# Altium integrated library ST Logic Register.IntLib: 80 symbols (part 1 of 2)
Pins are listed as number, name and electrical type; pins without a type are passive.

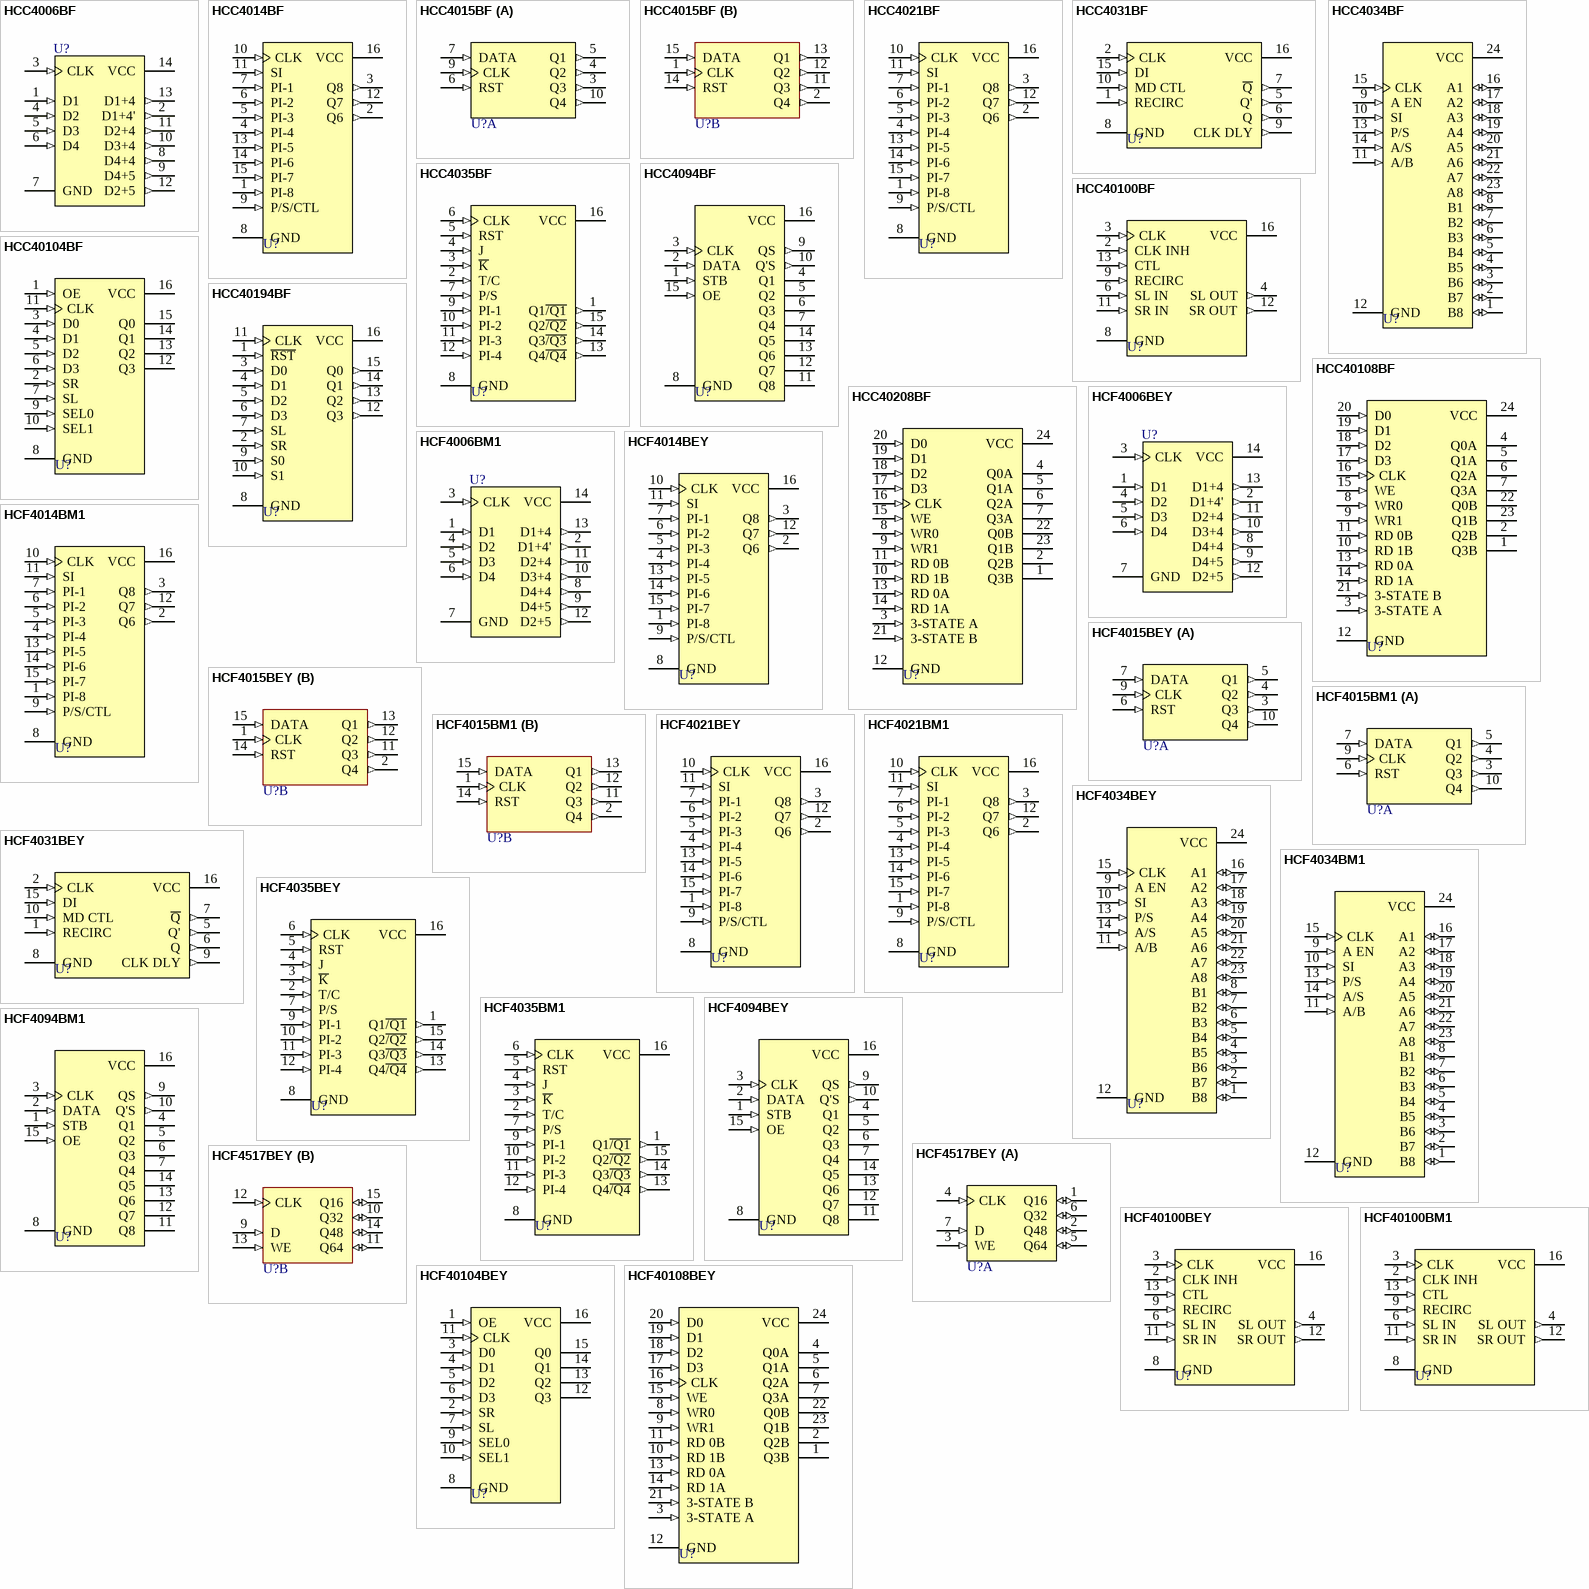
[diagram p0: symbols HCC4006BF to HCF40108BEY]

## HCC4006BF
designator U?
18-Stage Static Shift Register; Published: 8-Jun-2000; LatestRevisionDate: 6-Jun-2005; LatestRevisionNote: Stylized 3D Model Added.; DatasheetDocument: Jun-1989; PackageReference: CDIP14; Publisher: Altium Limited; ComponentLink1Description: Manufacturer Link; ComponentLink1URL: http://www.st.com/
footprint CDIP14 (DIP; 14 Leads; Row Spacing 7.62 mm; Pitch 2.54 mm)
3D model CDIP14 (DIP; 14 Leads; Row Spacing 7.62 mm; Pitch 2.54 mm)
simulation model HCC4006 (SIMCODE)
pins: 1 D1 (in), 2 D1+4' (out), 3 CLK (in), 4 D2 (in), 5 D3 (in), 6 D4 (in), 7 GND (power), 8 D4+4 (out), 9 D4+5 (out), 10 D3+4 (out), 11 D2+4 (out), 12 D2+5 (out), 13 D1+4 (out), 14 VCC (power)

## HCC4014BF
designator U?
8-Stage Static Shift Register; Published: 8-Jun-2000; LatestRevisionDate: 6-Jun-2005; LatestRevisionNote: Stylized 3D Model Added.; DatasheetDocument: Nov-1996; PackageDocument: Apr-1996; PackageReference: DIP16; Publisher: Altium Limited; ComponentLink1Description: Manufacturer Link; ComponentLink1URL: http://www.st.com/
footprint DIP16 (DIP; 16 Leads; Row Spacing 7.62 mm; Pitch 2.54 mm)
3D model DIP16 (DIP; 16 Leads; Row Spacing 7.62 mm; Pitch 2.54 mm)
simulation model HCC4014 (SIMCODE)
pins: 1 PI-8 (in), 2 Q6 (out), 3 Q8 (out), 4 PI-4 (in), 5 PI-3 (in), 6 PI-2 (in), 7 PI-1 (in), 8 GND (power), 9 P/S/CTL (in), 10 CLK (in), 11 SI (in), 12 Q7 (out), 13 PI-5 (in), 14 PI-6 (in), 15 PI-7 (in), 16 VCC (power)

## HCC4015BF
designator U?
Dual 4-Stage Static Shift Register with Serial Input/Parallel Output; Published: 8-Jun-2000; LatestRevisionDate: 6-Jun-2005; LatestRevisionNote: Stylized 3D Model Added.; DatasheetDocument: Jun-1989; PackageDocument: Apr-1996; PackageReference: DIP16; Publisher: Altium Limited; ComponentLink1Description: Manufacturer Link; ComponentLink1URL: http://www.st.com/
footprint DIP16 (DIP; 16 Leads; Row Spacing 7.62 mm; Pitch 2.54 mm)
3D model DIP16 (DIP; 16 Leads; Row Spacing 7.62 mm; Pitch 2.54 mm)
simulation model HCC4015 (SIMCODE)
pins on every part: 8 GND (power) hidden to GND, 16 VCC (power) hidden to VCC
part A pins: 3 Q3 (out), 4 Q2 (out), 5 Q1 (out), 6 RST (in), 7 DATA (in), 9 CLK (in), 10 Q4 (out)
part B pins: 1 CLK (in), 2 Q4 (out), 11 Q3 (out), 12 Q2 (out), 13 Q1 (out), 14 RST (in), 15 DATA (in)

## HCC4021BF
designator U?
8-Stage Static Shift Register; Published: 8-Jun-2000; LatestRevisionDate: 6-Jun-2005; LatestRevisionNote: Stylized 3D Model Added.; DatasheetDocument: Nov-1996; PackageDocument: Apr-1996; PackageReference: DIP16; Publisher: Altium Limited; ComponentLink1Description: Manufacturer Link; ComponentLink1URL: http://www.st.com/
footprint DIP16 (DIP; 16 Leads; Row Spacing 7.62 mm; Pitch 2.54 mm)
3D model DIP16 (DIP; 16 Leads; Row Spacing 7.62 mm; Pitch 2.54 mm)
simulation model HCC4021 (SIMCODE)
pins: 1 PI-8 (in), 2 Q6 (out), 3 Q8 (out), 4 PI-4 (in), 5 PI-3 (in), 6 PI-2 (in), 7 PI-1 (in), 8 GND (power), 9 P/S/CTL (in), 10 CLK (in), 11 SI (in), 12 Q7 (out), 13 PI-5 (in), 14 PI-6 (in), 15 PI-7 (in), 16 VCC (power)

## HCC4031BF
designator U?
64-Stage Static Shift Register; Note: Pins 3, 4, 11, 12, 13 and 14 are not connected and not drawn.; Published: 8-Jun-2000; LatestRevisionDate: 6-Jun-2005; LatestRevisionNote: Stylized 3D Model Added.; DatasheetDocument: Jun-1989; PackageDocument: Apr-1996; PackageReference: DIP16; Publisher: Altium Limited; ComponentLink1Description: Manufacturer Link; ComponentLink1URL: http://www.st.com/
footprint DIP16 (DIP; 16 Leads; Row Spacing 7.62 mm; Pitch 2.54 mm)
3D model DIP16 (DIP; 16 Leads; Row Spacing 7.62 mm; Pitch 2.54 mm)
simulation model HCC4031 (SIMCODE)
pins: 1 RECIRC (in), 2 CLK (in), 5 Q' (out), 6 Q (out), 7 ~{Q} (out), 8 GND (power), 9 CLK DLY (out), 10 MD CTL (in), 15 DI (in), 16 VCC (power)

## HCC4034BF
designator U?
8-Stage Static Bidirectional Parallel/Serial Input/Output Bus Register; Published: 8-Jun-2000; LatestRevisionDate: 6-Jun-2005; LatestRevisionNote: Stylized 3D Model Added.; DatasheetDocument: Jun-1989; PackageDocument: Sep-1988; PackageReference: CDIP24; Publisher: Altium Limited; ComponentLink1Description: Manufacturer Link; ComponentLink1URL: http://www.st.com/
footprint CDIP24 (DIP; 24 Leads; Row Spacing 15.24 mm; Pitch 2.54 mm)
3D model CDIP24 (DIP; 24 Leads; Row Spacing 15.24 mm; Pitch 2.54 mm)
pins: 1 B8 (io), 2 B7 (io), 3 B6 (io), 4 B5 (io), 5 B4 (io), 6 B3 (io), 7 B2 (io), 8 B1 (io), 9 A EN (in), 10 SI (in), 11 A/B (in), 12 GND (power), 13 P/S (in), 14 A/S (in), 15 CLK (in), 16 A1 (io), 17 A2 (io), 18 A3 (io), 19 A4 (io), 20 A5 (io), 21 A6 (io), 22 A7 (io), 23 A8 (io), 24 VCC (power)

## HCC4035BF
designator U?
4-Stage Parallel In/Parallel Out Shift Register; Published: 8-Jun-2000; LatestRevisionDate: 6-Jun-2005; LatestRevisionNote: Stylized 3D Model Added.; DatasheetDocument: Jul-1989; PackageDocument: Apr-1996; PackageReference: DIP16; Publisher: Altium Limited; ComponentLink1Description: Manufacturer Link; ComponentLink1URL: http://www.st.com/
footprint DIP16 (DIP; 16 Leads; Row Spacing 7.62 mm; Pitch 2.54 mm)
3D model DIP16 (DIP; 16 Leads; Row Spacing 7.62 mm; Pitch 2.54 mm)
simulation model HCC4035 (SIMCODE)
pins: 1 Q1~{/Q1} (out), 2 T/C (in), 3 ~{K} (in), 4 J (in), 5 RST (in), 6 CLK (in), 7 P/S (in), 8 GND (power), 9 PI-1 (in), 10 PI-2 (in), 11 PI-3 (in), 12 PI-4 (in), 13 Q4~{/Q4} (out), 14 Q3~{/Q3} (out), 15 Q2~{/Q2} (out), 16 VCC (power)

## HCC4094BF
designator U?
8-Stage Shift-AND-Store Bus Register; Published: 8-Jun-2000; LatestRevisionDate: 6-Jun-2005; LatestRevisionNote: Stylized 3D Model Added.; DatasheetDocument: Jun-1989; PackageDocument: Apr-1996; PackageReference: DIP16; Publisher: Altium Limited; ComponentLink1Description: Manufacturer Link; ComponentLink1URL: http://www.st.com/
footprint DIP16 (DIP; 16 Leads; Row Spacing 7.62 mm; Pitch 2.54 mm)
3D model DIP16 (DIP; 16 Leads; Row Spacing 7.62 mm; Pitch 2.54 mm)
simulation model HCC4094 (SIMCODE)
pins: 1 STB (in), 2 DATA (in), 3 CLK (in), 4 Q1 (hiz), 5 Q2 (hiz), 6 Q3 (hiz), 7 Q4 (hiz), 8 GND (power), 9 QS (out), 10 Q'S (out), 11 Q8 (hiz), 12 Q7 (hiz), 13 Q6 (hiz), 14 Q5 (hiz), 15 OE (in), 16 VCC (power)

## HCC40100BF
designator U?
32-Stage Static Left/Right Shift Register; Note: Pins 1, 5, 7, 10, 14 and 15 are not connected and not drawn.; Published: 8-Jun-2000; LatestRevisionDate: 6-Jun-2005; LatestRevisionNote: Stylized 3D Model Added.; DatasheetDocument: Jun-1989; PackageDocument: Apr-1996; PackageReference: DIP16; Publisher: Altium Limited; ComponentLink1Description: Manufacturer Link; ComponentLink1URL: http://www.st.com/
footprint DIP16 (DIP; 16 Leads; Row Spacing 7.62 mm; Pitch 2.54 mm)
3D model DIP16 (DIP; 16 Leads; Row Spacing 7.62 mm; Pitch 2.54 mm)
pins: 2 CLK INH (in), 3 CLK (in), 4 SL OUT (out), 6 SL IN (in), 8 GND (power), 9 RECIRC (in), 11 SR IN (in), 12 SR OUT (out), 13 CTL (in), 16 VCC (power)

## HCC40104BF
designator U?
4-Bit Bidirectional Universal Shift Register; Published: 8-Jun-2000; LatestRevisionDate: 6-Jun-2005; LatestRevisionNote: Stylized 3D Model Added.; DatasheetDocument: Jun-1989; PackageDocument: Apr-1996; PackageReference: DIP16; Publisher: Altium Limited; ComponentLink1Description: Manufacturer Link; ComponentLink1URL: http://www.st.com/
footprint DIP16 (DIP; 16 Leads; Row Spacing 7.62 mm; Pitch 2.54 mm)
3D model DIP16 (DIP; 16 Leads; Row Spacing 7.62 mm; Pitch 2.54 mm)
pins: 1 OE (in), 2 SR (in), 3 D0 (in), 4 D1 (in), 5 D2 (in), 6 D3 (in), 7 SL (in), 8 GND (power), 9 SEL0 (in), 10 SEL1 (in), 11 CLK (in), 12 Q3 (hiz), 13 Q2 (hiz), 14 Q1 (hiz), 15 Q0 (hiz), 16 VCC (power)

## HCC40108BF
designator U?
4 x 4 Multiport Register; Published: 8-Jun-2000; LatestRevisionDate: 6-Jun-2005; LatestRevisionNote: Stylized 3D Model Added.; DatasheetDocument: Sep-1988; PackageDocument: Sep-1988; PackageReference: CDIP24; Publisher: Altium Limited; ComponentLink1Description: Manufacturer Link; ComponentLink1URL: http://www.st.com/
footprint CDIP24 (DIP; 24 Leads; Row Spacing 15.24 mm; Pitch 2.54 mm)
3D model CDIP24 (DIP; 24 Leads; Row Spacing 15.24 mm; Pitch 2.54 mm)
pins: 1 Q3B (hiz), 2 Q2B (hiz), 3 3-STATE A (in), 4 Q0A (hiz), 5 Q1A (hiz), 6 Q2A (hiz), 7 Q3A (hiz), 8 WR0 (in), 9 WR1 (in), 10 RD 1B (in), 11 RD 0B (in), 12 GND (power), 13 RD 0A (in), 14 RD 1A (in), 15 WE (in), 16 CLK (in), 17 D3 (in), 18 D2 (in), 19 D1 (in), 20 D0 (in), 21 3-STATE B (in), 22 Q0B (hiz), 23 Q1B (hiz), 24 VCC (power)

## HCC40194BF
designator U?
4-Bit Bidirectional Universal Shift Register; Published: 8-Jun-2000; LatestRevisionDate: 6-Jun-2005; LatestRevisionNote: Stylized 3D Model Added.; DatasheetDocument: Jun-1989; PackageDocument: Apr-1996; PackageReference: DIP16; Publisher: Altium Limited; ComponentLink1Description: Manufacturer Link; ComponentLink1URL: http://www.st.com/
footprint DIP16 (DIP; 16 Leads; Row Spacing 7.62 mm; Pitch 2.54 mm)
3D model DIP16 (DIP; 16 Leads; Row Spacing 7.62 mm; Pitch 2.54 mm)
pins: 1 ~{RST} (in), 2 SR (in), 3 D0 (in), 4 D1 (in), 5 D2 (in), 6 D3 (in), 7 SL (in), 8 GND (power), 9 S0 (in), 10 S1 (in), 11 CLK (in), 12 Q3 (out), 13 Q2 (out), 14 Q1 (out), 15 Q0 (out), 16 VCC (power)

## HCC40208BF
designator U?
4 x 4 Multiport Register; Published: 8-Jun-2000; LatestRevisionDate: 6-Jun-2005; LatestRevisionNote: Stylized 3D Model Added.; DatasheetDocument: Jun-1989; PackageDocument: Sep-1988; PackageReference: CDIP24; Publisher: Altium Limited; ComponentLink1Description: Manufacturer Link; ComponentLink1URL: http://www.st.com/
footprint CDIP24 (DIP; 24 Leads; Row Spacing 15.24 mm; Pitch 2.54 mm)
3D model CDIP24 (DIP; 24 Leads; Row Spacing 15.24 mm; Pitch 2.54 mm)
pins: 1 Q3B (hiz), 2 Q2B (hiz), 3 3-STATE A (in), 4 Q0A (hiz), 5 Q1A (hiz), 6 Q2A (hiz), 7 Q3A (hiz), 8 WR0 (in), 9 WR1 (in), 10 RD 1B (in), 11 RD 0B (in), 12 GND (power), 13 RD 0A (in), 14 RD 1A (in), 15 WE (in), 16 CLK (in), 17 D3 (in), 18 D2 (in), 19 D1 (in), 20 D0 (in), 21 3-STATE B (in), 22 Q0B (hiz), 23 Q1B (hiz), 24 VCC (power)

## HCF4006BEY
designator U?
18-Stage Static Shift Register; Published: 8-Jun-2000; LatestRevisionDate: 6-Jun-2005; LatestRevisionNote: Stylized 3D Model Added.; DatasheetDocument: Jun-1989; PackageDocument: Jan-1997; PackageReference: DIP14; Publisher: Altium Limited; ComponentLink1Description: Manufacturer Link; ComponentLink1URL: http://www.st.com/; ComponentLink2Description: Datasheet; ComponentLink2URL: http://www.st.com/stonline/products/literature/ds/2008/hcf4006.pdf
footprint DIP14 (DIP; 14 Leads; Row Spacing 7.62 mm; Pitch 2.54 mm)
3D model CDIP14 (DIP; 14 Leads; Row Spacing 7.62 mm; Pitch 2.54 mm)
simulation model HCF4006 (SIMCODE)
pins: 1 D1 (in), 2 D1+4' (out), 3 CLK (in), 4 D2 (in), 5 D3 (in), 6 D4 (in), 7 GND (power), 8 D4+4 (out), 9 D4+5 (out), 10 D3+4 (out), 11 D2+4 (out), 12 D2+5 (out), 13 D1+4 (out), 14 VCC (power)

## HCF4006BM1
designator U?
18-Stage Static Shift Register; Published: 8-Jun-2000; LatestRevisionDate: 6-Jun-2005; LatestRevisionNote: Stylized 3D Model Added.; DatasheetDocument: Jun-1989; PackageDocument: Sep-1998; PackageReference: SO14; Publisher: Altium Limited; ComponentLink1Description: Manufacturer Link; ComponentLink1URL: http://www.st.com/; ComponentLink2Description: Datasheet; ComponentLink2URL: http://www.st.com/stonline/products/literature/ds/2008/hcf4006.pdf
footprint SO14 (Small Outline; 14 Leads; Body Width 3.9 mm; Pitch 1.27 mm)
3D model SO14 (Small Outline; 14 Leads; Body Width 3.9 mm; Pitch 1.27 mm)
simulation model HCF4006 (SIMCODE)
pins: 1 D1 (in), 2 D1+4' (out), 3 CLK (in), 4 D2 (in), 5 D3 (in), 6 D4 (in), 7 GND (power), 8 D4+4 (out), 9 D4+5 (out), 10 D3+4 (out), 11 D2+4 (out), 12 D2+5 (out), 13 D1+4 (out), 14 VCC (power)

## HCF4014BEY
designator U?
8-Stage Static Shift Register; Published: 8-Jun-2000; LatestRevisionDate: 6-Jun-2005; LatestRevisionNote: Stylized 3D Model Added.; DatasheetDocument: Nov-1996; PackageDocument: Apr-1996; PackageReference: DIP16; Publisher: Altium Limited; ComponentLink1Description: Manufacturer Link; ComponentLink1URL: http://www.st.com/; ComponentLink2Description: Datasheet; ComponentLink2URL: http://www.st.com/stonline/products/literature/ds/4898/hcf4014.pdf
footprint DIP16 (DIP; 16 Leads; Row Spacing 7.62 mm; Pitch 2.54 mm)
3D model DIP16 (DIP; 16 Leads; Row Spacing 7.62 mm; Pitch 2.54 mm)
simulation model HCF4014 (SIMCODE)
pins: 1 PI-8 (in), 2 Q6 (out), 3 Q8 (out), 4 PI-4 (in), 5 PI-3 (in), 6 PI-2 (in), 7 PI-1 (in), 8 GND (power), 9 P/S/CTL (in), 10 CLK (in), 11 SI (in), 12 Q7 (out), 13 PI-5 (in), 14 PI-6 (in), 15 PI-7 (in), 16 VCC (power)

## HCF4014BM1
designator U?
8-Stage Static Shift Register; Published: 8-Jun-2000; LatestRevisionDate: 6-Jun-2005; LatestRevisionNote: Stylized 3D Model Added.; DatasheetDocument: Nov-1996; PackageDocument: May-1998; PackageReference: SO16; Publisher: Altium Limited; ComponentLink1Description: Manufacturer Link; ComponentLink1URL: http://www.st.com/; ComponentLink2Description: Datasheet; ComponentLink2URL: http://www.st.com/stonline/products/literature/ds/4898/hcf4014.pdf
footprint SO16 (Small Outline; 16 Leads; Body Width 3.9 mm; Pitch 1.27 mm)
3D model SO16 (Small Outline; 16 Leads; Body Width 3.9 mm; Pitch 1.27 mm)
simulation model HCF4014 (SIMCODE)
pins: 1 PI-8 (in), 2 Q6 (out), 3 Q8 (out), 4 PI-4 (in), 5 PI-3 (in), 6 PI-2 (in), 7 PI-1 (in), 8 GND (power), 9 P/S/CTL (in), 10 CLK (in), 11 SI (in), 12 Q7 (out), 13 PI-5 (in), 14 PI-6 (in), 15 PI-7 (in), 16 VCC (power)

## HCF4015BEY
designator U?
Dual 4-Stage Static Shift Register with Serial Input/Parallel Output; Published: 8-Jun-2000; LatestRevisionDate: 6-Jun-2005; LatestRevisionNote: Stylized 3D Model Added.; DatasheetDocument: Jun-1989; PackageDocument: Apr-1996; PackageReference: DIP16; Publisher: Altium Limited; ComponentLink1Description: Manufacturer Link; ComponentLink1URL: http://www.st.com/; ComponentLink2Description: Datasheet; ComponentLink2URL: http://www.st.com/stonline/products/literature/ds/2025/hcf4015.pdf
footprint DIP16 (DIP; 16 Leads; Row Spacing 7.62 mm; Pitch 2.54 mm)
3D model DIP16 (DIP; 16 Leads; Row Spacing 7.62 mm; Pitch 2.54 mm)
simulation model HCF4015 (SIMCODE)
pins on every part: 8 GND (power) hidden to GND, 16 VCC (power) hidden to VCC
part A pins: 3 Q3 (out), 4 Q2 (out), 5 Q1 (out), 6 RST (in), 7 DATA (in), 9 CLK (in), 10 Q4 (out)
part B pins: 1 CLK (in), 2 Q4 (out), 11 Q3 (out), 12 Q2 (out), 13 Q1 (out), 14 RST (in), 15 DATA (in)

## HCF4015BM1
designator U?
Dual 4-Stage Static Shift Register with Serial Input/Parallel Output; Published: 8-Jun-2000; LatestRevisionDate: 6-Jun-2005; LatestRevisionNote: Stylized 3D Model Added.; DatasheetDocument: Jun-1989; PackageDocument: May-1998; PackageReference: SO16; Publisher: Altium Limited; ComponentLink1Description: Manufacturer Link; ComponentLink1URL: http://www.st.com/; ComponentLink2Description: Datasheet; ComponentLink2URL: http://www.st.com/stonline/products/literature/ds/2025/hcf4015.pdf
footprint SO16 (Small Outline; 16 Leads; Body Width 3.9 mm; Pitch 1.27 mm)
3D model SO16 (Small Outline; 16 Leads; Body Width 3.9 mm; Pitch 1.27 mm)
simulation model HCF4015 (SIMCODE)
pins on every part: 8 GND (power) hidden to GND, 16 VCC (power) hidden to VCC
part A pins: 3 Q3 (out), 4 Q2 (out), 5 Q1 (out), 6 RST (in), 7 DATA (in), 9 CLK (in), 10 Q4 (out)
part B pins: 1 CLK (in), 2 Q4 (out), 11 Q3 (out), 12 Q2 (out), 13 Q1 (out), 14 RST (in), 15 DATA (in)

## HCF4021BEY
designator U?
8-Stage Static Shift Register; Published: 8-Jun-2000; LatestRevisionDate: 6-Jun-2005; LatestRevisionNote: Stylized 3D Model Added.; DatasheetDocument: Nov-1996; PackageDocument: Apr-1996; PackageReference: DIP16; Publisher: Altium Limited; ComponentLink1Description: Manufacturer Link; ComponentLink1URL: http://www.st.com/; ComponentLink2Description: Datasheet; ComponentLink2URL: http://www.st.com/stonline/products/literature/ds/8216/hcf4021.pdf
footprint DIP16 (DIP; 16 Leads; Row Spacing 7.62 mm; Pitch 2.54 mm)
3D model DIP16 (DIP; 16 Leads; Row Spacing 7.62 mm; Pitch 2.54 mm)
simulation model HCF4021 (SIMCODE)
pins: 1 PI-8 (in), 2 Q6 (out), 3 Q8 (out), 4 PI-4 (in), 5 PI-3 (in), 6 PI-2 (in), 7 PI-1 (in), 8 GND (power), 9 P/S/CTL (in), 10 CLK (in), 11 SI (in), 12 Q7 (out), 13 PI-5 (in), 14 PI-6 (in), 15 PI-7 (in), 16 VCC (power)

## HCF4021BM1
designator U?
8-Stage Static Shift Register; Published: 8-Jun-2000; LatestRevisionDate: 6-Jun-2005; LatestRevisionNote: Stylized 3D Model Added.; DatasheetDocument: Nov-1996; PackageDocument: May-1998; PackageReference: SO16; Publisher: Altium Limited; ComponentLink1Description: Manufacturer Link; ComponentLink1URL: http://www.st.com/; ComponentLink2Description: Datasheet; ComponentLink2URL: http://www.st.com/stonline/products/literature/ds/8216/hcf4021.pdf
footprint SO16 (Small Outline; 16 Leads; Body Width 3.9 mm; Pitch 1.27 mm)
3D model SO16 (Small Outline; 16 Leads; Body Width 3.9 mm; Pitch 1.27 mm)
simulation model HCF4021 (SIMCODE)
pins: 1 PI-8 (in), 2 Q6 (out), 3 Q8 (out), 4 PI-4 (in), 5 PI-3 (in), 6 PI-2 (in), 7 PI-1 (in), 8 GND (power), 9 P/S/CTL (in), 10 CLK (in), 11 SI (in), 12 Q7 (out), 13 PI-5 (in), 14 PI-6 (in), 15 PI-7 (in), 16 VCC (power)

## HCF4031BEY
designator U?
64-Stage Static Shift Register; Note: Pins 3, 4, 11, 12, 13 and 14 are not connected and not drawn.; Published: 8-Jun-2000; LatestRevisionDate: 6-Jun-2005; LatestRevisionNote: Stylized 3D Model Added.; DatasheetDocument: Jun-1989; PackageDocument: Apr-1996; PackageReference: DIP16; Publisher: Altium Limited; ComponentLink1Description: Manufacturer Link; ComponentLink1URL: http://www.st.com/
footprint DIP16 (DIP; 16 Leads; Row Spacing 7.62 mm; Pitch 2.54 mm)
3D model DIP16 (DIP; 16 Leads; Row Spacing 7.62 mm; Pitch 2.54 mm)
simulation model HCF4031 (SIMCODE)
pins: 1 RECIRC (in), 2 CLK (in), 5 Q' (out), 6 Q (out), 7 ~{Q} (out), 8 GND (power), 9 CLK DLY (out), 10 MD CTL (in), 15 DI (in), 16 VCC (power)

## HCF4034BEY
designator U?
8-Stage Static Bidirectional Parallel/Serial Input/Output Bus Register; Published: 8-Jun-2000; LatestRevisionDate: 6-Jun-2005; LatestRevisionNote: Stylized 3D Model Added.; DatasheetDocument: Jun-1989; PackageDocument: Jan-1995; PackageReference: PDIP24; Publisher: Altium Limited; ComponentLink1Description: Manufacturer Link; ComponentLink1URL: http://www.st.com/
footprint PDIP24 (DIP; 24 Leads; Row Spacing 15.24 mm; Pitch 2.54 mm)
3D model CDIP24 (DIP; 24 Leads; Row Spacing 15.24 mm; Pitch 2.54 mm)
pins: 1 B8 (io), 2 B7 (io), 3 B6 (io), 4 B5 (io), 5 B4 (io), 6 B3 (io), 7 B2 (io), 8 B1 (io), 9 A EN (in), 10 SI (in), 11 A/B (in), 12 GND (power), 13 P/S (in), 14 A/S (in), 15 CLK (in), 16 A1 (io), 17 A2 (io), 18 A3 (io), 19 A4 (io), 20 A5 (io), 21 A6 (io), 22 A7 (io), 23 A8 (io), 24 VCC (power)

## HCF4034BM1
designator U?
8-Stage Static Bidirectional Parallel/Serial Input/Output Bus Register; Published: 8-Jun-2000; LatestRevisionDate: 6-Jun-2005; LatestRevisionNote: Stylized 3D Model Added.; DatasheetDocument: Jun-1989; PackageDocument: Oct-2001; PackageReference: SO24; Publisher: Altium Limited; Code_IPC: SO24W; ComponentLink1Description: Manufacturer Link; ComponentLink1URL: http://www.st.com/
footprint SO24 (Small Outline, Plastic; 24 Leads; Body Width 7.5 mm; Pitch 1.27 mm)
3D model SO24 (Small Outline, Plastic; 24 Leads; Body Width 7.5 mm; Pitch 1.27 mm)
pins: 1 B8 (io), 2 B7 (io), 3 B6 (io), 4 B5 (io), 5 B4 (io), 6 B3 (io), 7 B2 (io), 8 B1 (io), 9 A EN (in), 10 SI (in), 11 A/B (in), 12 GND (power), 13 P/S (in), 14 A/S (in), 15 CLK (in), 16 A1 (io), 17 A2 (io), 18 A3 (io), 19 A4 (io), 20 A5 (io), 21 A6 (io), 22 A7 (io), 23 A8 (io), 24 VCC (power)

## HCF4035BEY
designator U?
4-Stage Parallel In/Parallel Out Shift Register; Published: 8-Jun-2000; LatestRevisionDate: 6-Jun-2005; LatestRevisionNote: Stylized 3D Model Added.; DatasheetDocument: Jul-1989; PackageDocument: Apr-1996; PackageReference: DIP16; Publisher: Altium Limited; ComponentLink1Description: Manufacturer Link; ComponentLink1URL: http://www.st.com/; ComponentLink2Description: Datasheet; ComponentLink2URL: http://www.st.com/stonline/products/literature/ds/2045/hcf4035.pdf
footprint DIP16 (DIP; 16 Leads; Row Spacing 7.62 mm; Pitch 2.54 mm)
3D model DIP16 (DIP; 16 Leads; Row Spacing 7.62 mm; Pitch 2.54 mm)
simulation model HCF4035 (SIMCODE)
pins: 1 Q1~{/Q1} (out), 2 T/C (in), 3 ~{K} (in), 4 J (in), 5 RST (in), 6 CLK (in), 7 P/S (in), 8 GND (power), 9 PI-1 (in), 10 PI-2 (in), 11 PI-3 (in), 12 PI-4 (in), 13 Q4~{/Q4} (out), 14 Q3~{/Q3} (out), 15 Q2~{/Q2} (out), 16 VCC (power)

## HCF4035BM1
designator U?
4-Stage Parallel In/Parallel Out Shift Register; Published: 8-Jun-2000; LatestRevisionDate: 6-Jun-2005; LatestRevisionNote: Stylized 3D Model Added.; DatasheetDocument: Jul-1989; PackageDocument: May-1998; PackageReference: SO16; Publisher: Altium Limited; ComponentLink1Description: Manufacturer Link; ComponentLink1URL: http://www.st.com/; ComponentLink2Description: Datasheet; ComponentLink2URL: http://www.st.com/stonline/products/literature/ds/2045/hcf4035.pdf
footprint SO16 (Small Outline; 16 Leads; Body Width 3.9 mm; Pitch 1.27 mm)
3D model SO16 (Small Outline; 16 Leads; Body Width 3.9 mm; Pitch 1.27 mm)
simulation model HCF4035 (SIMCODE)
pins: 1 Q1~{/Q1} (out), 2 T/C (in), 3 ~{K} (in), 4 J (in), 5 RST (in), 6 CLK (in), 7 P/S (in), 8 GND (power), 9 PI-1 (in), 10 PI-2 (in), 11 PI-3 (in), 12 PI-4 (in), 13 Q4~{/Q4} (out), 14 Q3~{/Q3} (out), 15 Q2~{/Q2} (out), 16 VCC (power)

## HCF4094BEY
designator U?
8-Stage Shift-AND-Store Bus Register; Published: 8-Jun-2000; LatestRevisionDate: 6-Jun-2005; LatestRevisionNote: Stylized 3D Model Added.; DatasheetDocument: Jun-1989; PackageDocument: Apr-1996; PackageReference: DIP16; Publisher: Altium Limited; ComponentLink1Description: Manufacturer Link; ComponentLink1URL: http://www.st.com/; ComponentLink2Description: Datasheet; ComponentLink2URL: http://www.st.com/stonline/products/literature/ds/2069/hcf4094.pdf
footprint DIP16 (DIP; 16 Leads; Row Spacing 7.62 mm; Pitch 2.54 mm)
3D model DIP16 (DIP; 16 Leads; Row Spacing 7.62 mm; Pitch 2.54 mm)
simulation model HCF4094 (SIMCODE)
pins: 1 STB (in), 2 DATA (in), 3 CLK (in), 4 Q1 (hiz), 5 Q2 (hiz), 6 Q3 (hiz), 7 Q4 (hiz), 8 GND (power), 9 QS (out), 10 Q'S (out), 11 Q8 (hiz), 12 Q7 (hiz), 13 Q6 (hiz), 14 Q5 (hiz), 15 OE (in), 16 VCC (power)

## HCF4094BM1
designator U?
8-Stage Shift-AND-Store Bus Register; Published: 8-Jun-2000; LatestRevisionDate: 6-Jun-2005; LatestRevisionNote: Stylized 3D Model Added.; DatasheetDocument: Jun-1989; PackageDocument: May-1998; PackageReference: SO16; Publisher: Altium Limited; ComponentLink1Description: Manufacturer Link; ComponentLink1URL: http://www.st.com/; ComponentLink2Description: Datasheet; ComponentLink2URL: http://www.st.com/stonline/products/literature/ds/2069/hcf4094.pdf
footprint SO16 (Small Outline; 16 Leads; Body Width 3.9 mm; Pitch 1.27 mm)
3D model SO16 (Small Outline; 16 Leads; Body Width 3.9 mm; Pitch 1.27 mm)
simulation model HCF4094 (SIMCODE)
pins: 1 STB (in), 2 DATA (in), 3 CLK (in), 4 Q1 (hiz), 5 Q2 (hiz), 6 Q3 (hiz), 7 Q4 (hiz), 8 GND (power), 9 QS (out), 10 Q'S (out), 11 Q8 (hiz), 12 Q7 (hiz), 13 Q6 (hiz), 14 Q5 (hiz), 15 OE (in), 16 VCC (power)

## HCF4517BEY
designator U?
Dual 64-Stage Static Shift Register; Published: 8-Jun-2000; LatestRevisionDate: 6-Jun-2005; LatestRevisionNote: Stylized 3D Model Added.; DatasheetDocument: Sep-1988; PackageDocument: Apr-1996; PackageReference: DIP16; Publisher: Altium Limited; ComponentLink1Description: Manufacturer Link; ComponentLink1URL: http://www.st.com/; ComponentLink2Description: Datasheet; ComponentLink2URL: http://www.st.com/stonline/products/literature/ds/2081/hcf4517.pdf
footprint DIP16 (DIP; 16 Leads; Row Spacing 7.62 mm; Pitch 2.54 mm)
3D model DIP16 (DIP; 16 Leads; Row Spacing 7.62 mm; Pitch 2.54 mm)
simulation model HCF4517 (SIMCODE)
pins on every part: 8 GND (power) hidden to GND, 16 VDD (power) hidden to VDD
part A pins: 1 Q16 (io), 2 Q48 (io), 3 WE (in), 4 CLK (in), 5 Q64 (io), 6 Q32 (io), 7 D (in)
part B pins: 9 D (in), 10 Q32 (io), 11 Q64 (io), 12 CLK (in), 13 WE (in), 14 Q48 (io), 15 Q16 (io)

## HCF40100BEY
designator U?
32-Stage Static Left/Right Shift Register; Note: Pins 1, 5, 7, 10, 14 and 15 are not connected and not drawn.; Published: 8-Jun-2000; LatestRevisionDate: 6-Jun-2005; LatestRevisionNote: Stylized 3D Model Added.; DatasheetDocument: Jun-1989; PackageDocument: Apr-1996; PackageReference: DIP16; Publisher: Altium Limited; ComponentLink1Description: Manufacturer Link; ComponentLink1URL: http://www.st.com/
footprint DIP16 (DIP; 16 Leads; Row Spacing 7.62 mm; Pitch 2.54 mm)
3D model DIP16 (DIP; 16 Leads; Row Spacing 7.62 mm; Pitch 2.54 mm)
pins: 2 CLK INH (in), 3 CLK (in), 4 SL OUT (out), 6 SL IN (in), 8 GND (power), 9 RECIRC (in), 11 SR IN (in), 12 SR OUT (out), 13 CTL (in), 16 VCC (power)

## HCF40100BM1
designator U?
32-Stage Static Left/Right Shift Register; Note: Pins 1, 5, 7, 10, 14 and 15 are not connected and not drawn.; Published: 8-Jun-2000; LatestRevisionDate: 6-Jun-2005; LatestRevisionNote: Stylized 3D Model Added.; DatasheetDocument: Jun-1989; PackageDocument: May-1998; PackageReference: SO16; Publisher: Altium Limited; ComponentLink1Description: Manufacturer Link; ComponentLink1URL: http://www.st.com/
footprint SO16 (Small Outline; 16 Leads; Body Width 3.9 mm; Pitch 1.27 mm)
3D model SO16 (Small Outline; 16 Leads; Body Width 3.9 mm; Pitch 1.27 mm)
pins: 2 CLK INH (in), 3 CLK (in), 4 SL OUT (out), 6 SL IN (in), 8 GND (power), 9 RECIRC (in), 11 SR IN (in), 12 SR OUT (out), 13 CTL (in), 16 VCC (power)

## HCF40104BEY
designator U?
4-Bit Bidirectional Universal Shift Register; Published: 8-Jun-2000; LatestRevisionDate: 6-Jun-2005; LatestRevisionNote: Stylized 3D Model Added.; DatasheetDocument: Jun-1989; PackageDocument: Apr-1996; PackageReference: DIP16; Publisher: Altium Limited; ComponentLink1Description: Manufacturer Link; ComponentLink1URL: http://www.st.com/
footprint DIP16 (DIP; 16 Leads; Row Spacing 7.62 mm; Pitch 2.54 mm)
3D model DIP16 (DIP; 16 Leads; Row Spacing 7.62 mm; Pitch 2.54 mm)
pins: 1 OE (in), 2 SR (in), 3 D0 (in), 4 D1 (in), 5 D2 (in), 6 D3 (in), 7 SL (in), 8 GND (power), 9 SEL0 (in), 10 SEL1 (in), 11 CLK (in), 12 Q3 (hiz), 13 Q2 (hiz), 14 Q1 (hiz), 15 Q0 (hiz), 16 VCC (power)

## HCF40108BEY
designator U?
4 x 4 Multiport Register; Published: 8-Jun-2000; LatestRevisionDate: 6-Jun-2005; LatestRevisionNote: Stylized 3D Model Added.; DatasheetDocument: Sep-1988; PackageDocument: Jan-1995; PackageReference: PDIP24; Publisher: Altium Limited; ComponentLink1Description: Manufacturer Link; ComponentLink1URL: http://www.st.com/
footprint PDIP24 (DIP; 24 Leads; Row Spacing 15.24 mm; Pitch 2.54 mm)
3D model CDIP24 (DIP; 24 Leads; Row Spacing 15.24 mm; Pitch 2.54 mm)
pins: 1 Q3B (hiz), 2 Q2B (hiz), 3 3-STATE A (in), 4 Q0A (hiz), 5 Q1A (hiz), 6 Q2A (hiz), 7 Q3A (hiz), 8 WR0 (in), 9 WR1 (in), 10 RD 1B (in), 11 RD 0B (in), 12 GND (power), 13 RD 0A (in), 14 RD 1A (in), 15 WE (in), 16 CLK (in), 17 D3 (in), 18 D2 (in), 19 D1 (in), 20 D0 (in), 21 3-STATE B (in), 22 Q0B (hiz), 23 Q1B (hiz), 24 VCC (power)

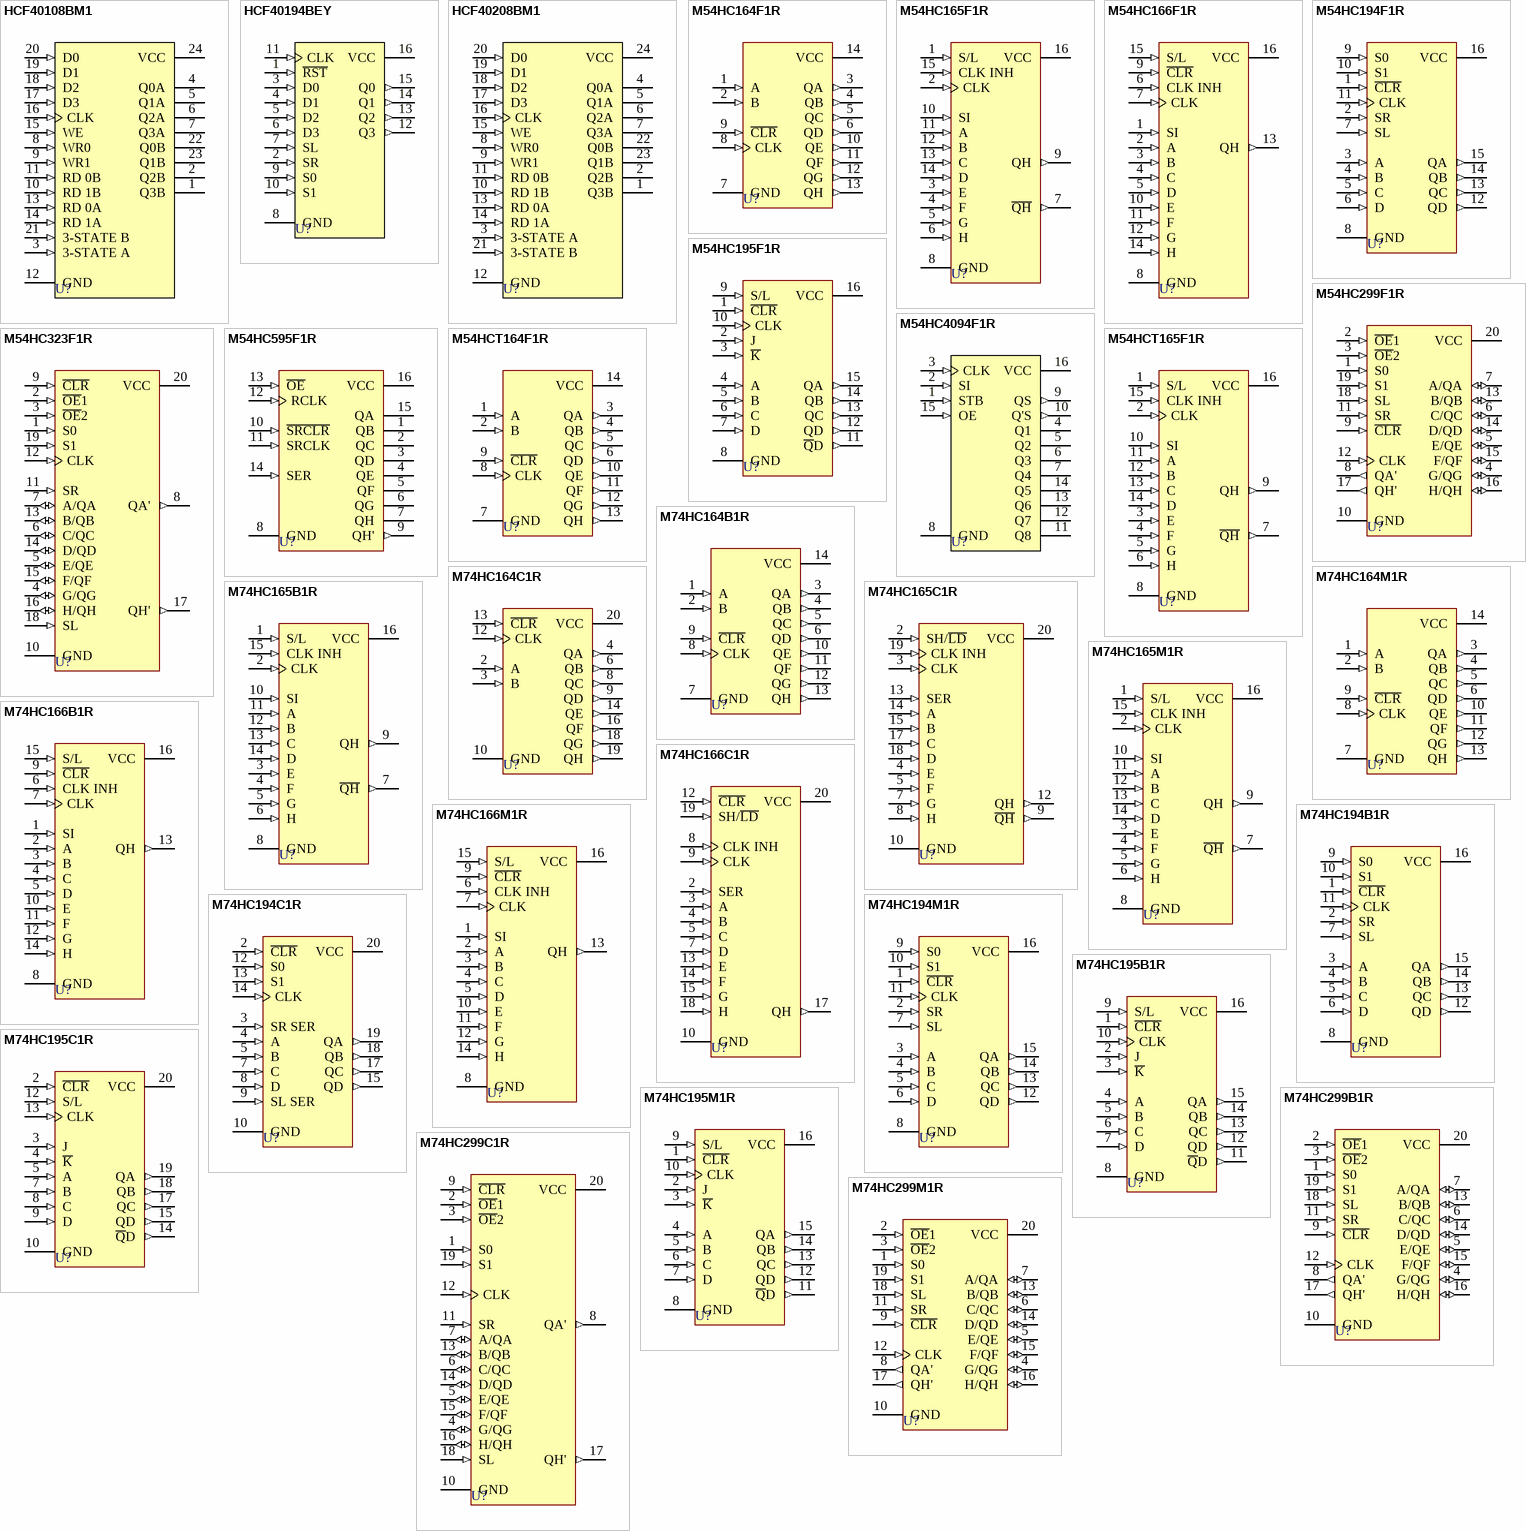
[diagram p1: symbols HCF40108BM1 to M74HC299M1R]

## HCF40108BM1
designator U?
4 x 4 Multiport Register; Published: 8-Jun-2000; LatestRevisionDate: 6-Jun-2005; LatestRevisionNote: Stylized 3D Model Added.; DatasheetDocument: Sep-1988; PackageDocument: Oct-2001; PackageReference: SO24; Publisher: Altium Limited; Code_IPC: SO24W; ComponentLink1Description: Manufacturer Link; ComponentLink1URL: http://www.st.com/
footprint SO24 (Small Outline, Plastic; 24 Leads; Body Width 7.5 mm; Pitch 1.27 mm)
3D model SO24 (Small Outline, Plastic; 24 Leads; Body Width 7.5 mm; Pitch 1.27 mm)
pins: 1 Q3B (hiz), 2 Q2B (hiz), 3 3-STATE A (in), 4 Q0A (hiz), 5 Q1A (hiz), 6 Q2A (hiz), 7 Q3A (hiz), 8 WR0 (in), 9 WR1 (in), 10 RD 1B (in), 11 RD 0B (in), 12 GND (power), 13 RD 0A (in), 14 RD 1A (in), 15 WE (in), 16 CLK (in), 17 D3 (in), 18 D2 (in), 19 D1 (in), 20 D0 (in), 21 3-STATE B (in), 22 Q0B (hiz), 23 Q1B (hiz), 24 VCC (power)

## HCF40194BEY
designator U?
4-Bit Bidirectional Universal Shift Register; Published: 8-Jun-2000; LatestRevisionDate: 6-Jun-2005; LatestRevisionNote: Stylized 3D Model Added.; DatasheetDocument: Jun-1989; PackageDocument: Apr-1996; PackageReference: DIP16; Publisher: Altium Limited; ComponentLink1Description: Manufacturer Link; ComponentLink1URL: http://www.st.com/
footprint DIP16 (DIP; 16 Leads; Row Spacing 7.62 mm; Pitch 2.54 mm)
3D model DIP16 (DIP; 16 Leads; Row Spacing 7.62 mm; Pitch 2.54 mm)
pins: 1 ~{RST} (in), 2 SR (in), 3 D0 (in), 4 D1 (in), 5 D2 (in), 6 D3 (in), 7 SL (in), 8 GND (power), 9 S0 (in), 10 S1 (in), 11 CLK (in), 12 Q3 (out), 13 Q2 (out), 14 Q1 (out), 15 Q0 (out), 16 VCC (power)

## HCF40208BM1
designator U?
4 x 4 Multiport Register; Published: 8-Jun-2000; LatestRevisionDate: 6-Jun-2005; LatestRevisionNote: Stylized 3D Model Added.; DatasheetDocument: Jun-1989; PackageDocument: Oct-2001; PackageReference: SO24; Publisher: Altium Limited; Code_IPC: SO24W; ComponentLink1Description: Manufacturer Link; ComponentLink1URL: http://www.st.com/
footprint SO24 (Small Outline, Plastic; 24 Leads; Body Width 7.5 mm; Pitch 1.27 mm)
3D model SO24 (Small Outline, Plastic; 24 Leads; Body Width 7.5 mm; Pitch 1.27 mm)
pins: 1 Q3B (hiz), 2 Q2B (hiz), 3 3-STATE A (in), 4 Q0A (hiz), 5 Q1A (hiz), 6 Q2A (hiz), 7 Q3A (hiz), 8 WR0 (in), 9 WR1 (in), 10 RD 1B (in), 11 RD 0B (in), 12 GND (power), 13 RD 0A (in), 14 RD 1A (in), 15 WE (in), 16 CLK (in), 17 D3 (in), 18 D2 (in), 19 D1 (in), 20 D0 (in), 21 3-STATE B (in), 22 Q0B (hiz), 23 Q1B (hiz), 24 VCC (power)

## M54HC164F1R
designator U?
8 Bit SIPO Shift Register; Published: 8-Jun-2000; LatestRevisionDate: 6-Jun-2005; LatestRevisionNote: Stylized 3D Model Added.; DatasheetDocument: Oct-1992; PackageReference: CDIP14; Publisher: Altium Limited; ComponentLink1Description: Manufacturer Link; ComponentLink1URL: http://www.st.com/
footprint CDIP14 (DIP; 14 Leads; Row Spacing 7.62 mm; Pitch 2.54 mm)
3D model CDIP14 (DIP; 14 Leads; Row Spacing 7.62 mm; Pitch 2.54 mm)
signal-integrity model M54HC164F1R
pins: 1 A (in), 2 B (in), 3 QA (out), 4 QB (out), 5 QC (out), 6 QD (out), 7 GND (power), 8 CLK (in), 9 ~{CLR} (in), 10 QE (out), 11 QF (out), 12 QG (out), 13 QH (out), 14 VCC (power)

## M54HC165F1R
designator U?
8 Bit PISO Shift Register; Published: 8-Jun-2000; LatestRevisionDate: 6-Jun-2005; LatestRevisionNote: Stylized 3D Model Added.; DatasheetDocument: Sep-1993; PackageDocument: Apr-1996; PackageReference: DIP16; Publisher: Altium Limited; ComponentLink1Description: Manufacturer Link; ComponentLink1URL: http://www.st.com/
footprint DIP16 (DIP; 16 Leads; Row Spacing 7.62 mm; Pitch 2.54 mm)
3D model DIP16 (DIP; 16 Leads; Row Spacing 7.62 mm; Pitch 2.54 mm)
signal-integrity model M54HC165F1R
pins: 1 S/L (in), 2 CLK (in), 3 E (in), 4 F (in), 5 G (in), 6 H (in), 7 ~{QH} (out), 8 GND (power), 9 QH (out), 10 SI (in), 11 A (in), 12 B (in), 13 C (in), 14 D (in), 15 CLK INH (in), 16 VCC (power)

## M54HC166F1R
designator U?
8 Bit PISO Shift Register; Published: 8-Jun-2000; LatestRevisionDate: 6-Jun-2005; LatestRevisionNote: Stylized 3D Model Added.; DatasheetDocument: Oct-1992; PackageDocument: Apr-1996; PackageReference: DIP16; Publisher: Altium Limited; ComponentLink1Description: Manufacturer Link; ComponentLink1URL: http://www.st.com/
footprint DIP16 (DIP; 16 Leads; Row Spacing 7.62 mm; Pitch 2.54 mm)
3D model DIP16 (DIP; 16 Leads; Row Spacing 7.62 mm; Pitch 2.54 mm)
signal-integrity model M54HC166F1R
pins: 1 SI (in), 2 A (in), 3 B (in), 4 C (in), 5 D (in), 6 CLK INH (in), 7 CLK (in), 8 GND (power), 9 ~{CLR} (in), 10 E (in), 11 F (in), 12 G (in), 13 QH (out), 14 H (in), 15 S/L (in), 16 VCC (power)

## M54HC194F1R
designator U?
4 Bit PIPO Shift Register; Published: 8-Jun-2000; LatestRevisionDate: 6-Jun-2005; LatestRevisionNote: Stylized 3D Model Added.; DatasheetDocument: Oct-1992; PackageDocument: Apr-1996; PackageReference: DIP16; Publisher: Altium Limited; ComponentLink1Description: Manufacturer Link; ComponentLink1URL: http://www.st.com/
footprint DIP16 (DIP; 16 Leads; Row Spacing 7.62 mm; Pitch 2.54 mm)
3D model DIP16 (DIP; 16 Leads; Row Spacing 7.62 mm; Pitch 2.54 mm)
signal-integrity model M54HC194F1R
pins: 1 ~{CLR} (in), 2 SR (in), 3 A (in), 4 B (in), 5 C (in), 6 D (in), 7 SL (in), 8 GND (power), 9 S0 (in), 10 S1 (in), 11 CLK (in), 12 QD (out), 13 QC (out), 14 QB (out), 15 QA (out), 16 VCC (power)

## M54HC195F1R
designator U?
8 Bit PIPO Shift Register; Published: 8-Jun-2000; LatestRevisionDate: 6-Jun-2005; LatestRevisionNote: Stylized 3D Model Added.; DatasheetDocument: Oct-1992; PackageDocument: Apr-1996; PackageReference: DIP16; Publisher: Altium Limited; ComponentLink1Description: Manufacturer Link; ComponentLink1URL: http://www.st.com/
footprint DIP16 (DIP; 16 Leads; Row Spacing 7.62 mm; Pitch 2.54 mm)
3D model DIP16 (DIP; 16 Leads; Row Spacing 7.62 mm; Pitch 2.54 mm)
signal-integrity model M54HC195F1R
pins: 1 ~{CLR} (in), 2 J (in), 3 ~{K} (in), 4 A (in), 5 B (in), 6 C (in), 7 D (in), 8 GND (power), 9 S/L (in), 10 CLK (in), 11 ~{Q}D (out), 12 QD (out), 13 QC (out), 14 QB (out), 15 QA (out), 16 VCC (power)

## M54HC299F1R
designator U?
8 Bit PIPO Shift Register with Asynchronous Clear; Published: 8-Jun-2000; LatestRevisionDate: 6-Jun-2005; LatestRevisionNote: Stylized 3D Model Added.; DatasheetDocument: Oct-1993; PackageDocument: Sep-1994; PackageReference: CDIP20; Publisher: Altium Limited; ComponentLink1Description: Manufacturer Link; ComponentLink1URL: http://www.st.com/
footprint CDIP20 (DIP; 20 Leads; Row Spacing 7.62 mm; Pitch 2.54 mm)
3D model CDIP20 (DIP; 20 Leads; Row Spacing 7.62 mm; Pitch 2.54 mm)
signal-integrity model M54HC299F1R
pins: 1 S0 (in), 2 ~{OE}1 (in), 3 ~{OE}2 (in), 4 G/QG (io), 5 E/QE (io), 6 C/QC (io), 7 A/QA (io), 8 QA' (out), 9 ~{CLR} (in), 10 GND (power), 11 SR (in), 12 CLK (in), 13 B/QB (io), 14 D/QD (io), 15 F/QF (io), 16 H/QH (io), 17 QH' (out), 18 SL (in), 19 S1 (in), 20 VCC (power)

## M54HC323F1R
designator U?
8 Bit PIPO Shift Register with Synchronous Clear; Published: 8-Jun-2000; LatestRevisionDate: 6-Jun-2005; LatestRevisionNote: Stylized 3D Model Added.; DatasheetDocument: Oct-1993; PackageDocument: Sep-1994; PackageReference: CDIP20; Publisher: Altium Limited; ComponentLink1Description: Manufacturer Link; ComponentLink1URL: http://www.st.com/
footprint CDIP20 (DIP; 20 Leads; Row Spacing 7.62 mm; Pitch 2.54 mm)
3D model CDIP20 (DIP; 20 Leads; Row Spacing 7.62 mm; Pitch 2.54 mm)
signal-integrity model M54HC323F1R
pins: 1 S0 (in), 2 ~{OE}1 (in), 3 ~{OE}2 (in), 4 G/QG (io), 5 E/QE (io), 6 C/QC (io), 7 A/QA (io), 8 QA' (out), 9 ~{CLR} (in), 10 GND (power), 11 SR (in), 12 CLK (in), 13 B/QB (io), 14 D/QD (io), 15 F/QF (io), 16 H/QH (io), 17 QH' (out), 18 SL (in), 19 S1 (in), 20 VCC (power)

## M54HC595F1R
designator U?
8 Bit Shift Register with Output Latches (3 STATE); Published: 8-Jun-2000; LatestRevisionDate: 6-Jun-2005; LatestRevisionNote: Stylized 3D Model Added.; DatasheetDocument: Apr-1993; PackageDocument: Apr-1996; PackageReference: DIP16; Publisher: Altium Limited; ComponentLink1Description: Manufacturer Link; ComponentLink1URL: http://www.st.com/
footprint DIP16 (DIP; 16 Leads; Row Spacing 7.62 mm; Pitch 2.54 mm)
3D model DIP16 (DIP; 16 Leads; Row Spacing 7.62 mm; Pitch 2.54 mm)
signal-integrity model M54HC595F1R
pins: 1 QB (hiz), 2 QC (hiz), 3 QD (hiz), 4 QE (hiz), 5 QF (hiz), 6 QG (hiz), 7 QH (hiz), 8 GND (power), 9 QH' (out), 10 ~{SRCLR} (in), 11 SRCLK (in), 12 RCLK (in), 13 ~{OE} (in), 14 SER (in), 15 QA (hiz), 16 VCC (power)

## M54HC4094F1R
designator U?
8 Bit SIPO Shift Latch Register (3-State); Published: 8-Jun-2000; LatestRevisionDate: 6-Jun-2005; LatestRevisionNote: Stylized 3D Model Added.; DatasheetDocument: Feb-1993; PackageDocument: Apr-1996; PackageReference: DIP16; Publisher: Altium Limited; ComponentLink1Description: Manufacturer Link; ComponentLink1URL: http://www.st.com/
footprint DIP16 (DIP; 16 Leads; Row Spacing 7.62 mm; Pitch 2.54 mm)
3D model DIP16 (DIP; 16 Leads; Row Spacing 7.62 mm; Pitch 2.54 mm)
signal-integrity model M54HC4094F1R
pins: 1 STB (in), 2 SI (in), 3 CLK (in), 4 Q1 (hiz), 5 Q2 (hiz), 6 Q3 (hiz), 7 Q4 (hiz), 8 GND (power), 9 QS (out), 10 Q'S (out), 11 Q8 (hiz), 12 Q7 (hiz), 13 Q6 (hiz), 14 Q5 (hiz), 15 OE (in), 16 VCC (power)

## M54HCT164F1R
designator U?
8 Bit SIPO Shift Register; Published: 8-Jun-2000; LatestRevisionDate: 6-Jun-2005; LatestRevisionNote: Stylized 3D Model Added.; DatasheetDocument: Feb-1993; PackageReference: CDIP14; Publisher: Altium Limited; ComponentLink1Description: Manufacturer Link; ComponentLink1URL: http://www.st.com/
footprint CDIP14 (DIP; 14 Leads; Row Spacing 7.62 mm; Pitch 2.54 mm)
3D model CDIP14 (DIP; 14 Leads; Row Spacing 7.62 mm; Pitch 2.54 mm)
signal-integrity model M54HCT164F1R
pins: 1 A (in), 2 B (in), 3 QA (out), 4 QB (out), 5 QC (out), 6 QD (out), 7 GND (power), 8 CLK (in), 9 ~{CLR} (in), 10 QE (out), 11 QF (out), 12 QG (out), 13 QH (out), 14 VCC (power)

## M54HCT165F1R
designator U?
8 Bit PISO Shift Register; Published: 8-Jun-2000; LatestRevisionDate: 6-Jun-2005; LatestRevisionNote: Stylized 3D Model Added.; DatasheetDocument: Oct-1993; PackageDocument: Apr-1996; PackageReference: DIP16; Publisher: Altium Limited; ComponentLink1Description: Manufacturer Link; ComponentLink1URL: http://www.st.com/
footprint DIP16 (DIP; 16 Leads; Row Spacing 7.62 mm; Pitch 2.54 mm)
3D model DIP16 (DIP; 16 Leads; Row Spacing 7.62 mm; Pitch 2.54 mm)
signal-integrity model M54HCT165F1R
pins: 1 S/L (in), 2 CLK (in), 3 E (in), 4 F (in), 5 G (in), 6 H (in), 7 ~{QH} (out), 8 GND (power), 9 QH (out), 10 SI (in), 11 A (in), 12 B (in), 13 C (in), 14 D (in), 15 CLK INH (in), 16 VCC (power)

## M74HC164B1R
designator U?
8 Bit SIPO Shift Register; Published: 8-Jun-2000; LatestRevisionDate: 6-Jun-2005; LatestRevisionNote: Stylized 3D Model Added.; DatasheetDocument: Oct-1992; PackageDocument: Jan-1997; PackageReference: DIP14; Publisher: Altium Limited; ComponentLink1Description: Manufacturer Link; ComponentLink1URL: http://www.st.com/; ComponentLink2Description: Datasheet; ComponentLink2URL: http://www.st.com/stonline/products/literature/ds/1910/m74hc164.pdf
footprint DIP14 (DIP; 14 Leads; Row Spacing 7.62 mm; Pitch 2.54 mm)
3D model CDIP14 (DIP; 14 Leads; Row Spacing 7.62 mm; Pitch 2.54 mm)
signal-integrity model M74HC164B1R
pins: 1 A (in), 2 B (in), 3 QA (out), 4 QB (out), 5 QC (out), 6 QD (out), 7 GND (power), 8 CLK (in), 9 ~{CLR} (in), 10 QE (out), 11 QF (out), 12 QG (out), 13 QH (out), 14 VCC (power)

## M74HC164C1R
designator U?
8 Bit SIPO Shift Register; Note: Pins 1, 5, 7, 11, 15 and 17 are not connected and not drawn.; Published: 8-Jun-2000; LatestRevisionDate: 6-Jun-2005; LatestRevisionNote: Stylized 3D Model Added.; DatasheetDocument: Oct-1992; PackageDocument: Mar-1992; PackageReference: PLCC20; Publisher: Altium Limited; ComponentLink1Description: Manufacturer Link; ComponentLink1URL: http://www.st.com/
footprint PLCC20 (Leaded Chip Carrier; 20 Leads; Body 9 x 9 mm)
3D model M74HC164-PLCC20 (Leaded Chip Carrier; 20 Leads; Body 9 x 9 mm)
signal-integrity model M74HC164C1R
pins: 2 A (in), 3 B (in), 4 QA (out), 6 QB (out), 8 QC (out), 9 QD (out), 10 GND (power), 12 CLK (in), 13 ~{CLR} (in), 14 QE (out), 16 QF (out), 18 QG (out), 19 QH (out), 20 VCC (power)

## M74HC164M1R
designator U?
8 Bit SIPO Shift Register; Published: 8-Jun-2000; LatestRevisionDate: 6-Jun-2005; LatestRevisionNote: Stylized 3D Model Added.; DatasheetDocument: Oct-1992; PackageDocument: Sep-1998; PackageReference: SO14; Publisher: Altium Limited; ComponentLink1Description: Manufacturer Link; ComponentLink1URL: http://www.st.com/; ComponentLink2Description: Datasheet; ComponentLink2URL: http://www.st.com/stonline/products/literature/ds/1910/m74hc164.pdf
footprint SO14 (Small Outline; 14 Leads; Body Width 3.9 mm; Pitch 1.27 mm)
3D model SO14 (Small Outline; 14 Leads; Body Width 3.9 mm; Pitch 1.27 mm)
signal-integrity model M74HC164M1R
pins: 1 A (in), 2 B (in), 3 QA (out), 4 QB (out), 5 QC (out), 6 QD (out), 7 GND (power), 8 CLK (in), 9 ~{CLR} (in), 10 QE (out), 11 QF (out), 12 QG (out), 13 QH (out), 14 VCC (power)

## M74HC165B1R
designator U?
8 Bit PISO Shift Register; Published: 8-Jun-2000; LatestRevisionDate: 6-Jun-2005; LatestRevisionNote: Stylized 3D Model Added.; DatasheetDocument: Sep-1993; PackageDocument: Apr-1996; PackageReference: DIP16; Publisher: Altium Limited; ComponentLink1Description: Manufacturer Link; ComponentLink1URL: http://www.st.com/; ComponentLink2Description: Datasheet; ComponentLink2URL: http://www.st.com/stonline/products/literature/ds/1911/m74hc165.pdf
footprint DIP16 (DIP; 16 Leads; Row Spacing 7.62 mm; Pitch 2.54 mm)
3D model DIP16 (DIP; 16 Leads; Row Spacing 7.62 mm; Pitch 2.54 mm)
signal-integrity model M74HC165B1R
pins: 1 S/L (in), 2 CLK (in), 3 E (in), 4 F (in), 5 G (in), 6 H (in), 7 ~{QH} (out), 8 GND (power), 9 QH (out), 10 SI (in), 11 A (in), 12 B (in), 13 C (in), 14 D (in), 15 CLK INH (in), 16 VCC (power)

## M74HC165C1R
designator U?
8 Bit PISO Shift Register; Note: Pins 1, 6, 11 and 16 are not connected and not drawn.; Published: 8-Jun-2000; LatestRevisionDate: 6-Jun-2005; LatestRevisionNote: Stylized 3D Model Added.; DatasheetDocument: Sep-1993; PackageDocument: Mar-1992; PackageReference: PLCC20; Publisher: Altium Limited; ComponentLink1Description: Manufacturer Link; ComponentLink1URL: http://www.st.com/
footprint PLCC20 (Leaded Chip Carrier; 20 Leads; Body 9 x 9 mm)
3D model M74HC165-PLCC20 (Leaded Chip Carrier; 20 Leads; Body 9 x 9 mm)
signal-integrity model M74HC165C1R
pins: 2 SH/~{LD} (in), 3 CLK (in), 4 E (in), 5 F (in), 7 G (in), 8 H (in), 9 ~{QH} (out), 10 GND (power), 12 QH (out), 13 SER (in), 14 A (in), 15 B (in), 17 C (in), 18 D (in), 19 CLK INH (in), 20 VCC (power)

## M74HC165M1R
designator U?
8 Bit PISO Shift Register; Published: 8-Jun-2000; LatestRevisionDate: 6-Jun-2005; LatestRevisionNote: Stylized 3D Model Added.; DatasheetDocument: Sep-1993; PackageDocument: May-1998; PackageReference: SO16; Publisher: Altium Limited; ComponentLink1Description: Manufacturer Link; ComponentLink1URL: http://www.st.com/; ComponentLink2Description: Datasheet; ComponentLink2URL: http://www.st.com/stonline/products/literature/ds/1911/m74hc165.pdf
footprint SO16 (Small Outline; 16 Leads; Body Width 3.9 mm; Pitch 1.27 mm)
3D model SO16 (Small Outline; 16 Leads; Body Width 3.9 mm; Pitch 1.27 mm)
signal-integrity model M74HC165M1R
pins: 1 S/L (in), 2 CLK (in), 3 E (in), 4 F (in), 5 G (in), 6 H (in), 7 ~{QH} (out), 8 GND (power), 9 QH (out), 10 SI (in), 11 A (in), 12 B (in), 13 C (in), 14 D (in), 15 CLK INH (in), 16 VCC (power)

## M74HC166B1R
designator U?
8 Bit PISO Shift Register; Published: 8-Jun-2000; LatestRevisionDate: 6-Jun-2005; LatestRevisionNote: Stylized 3D Model Added.; DatasheetDocument: Oct-1992; PackageDocument: Apr-1996; PackageReference: DIP16; Publisher: Altium Limited; ComponentLink1Description: Manufacturer Link; ComponentLink1URL: http://www.st.com/; ComponentLink2Description: Datasheet; ComponentLink2URL: http://www.st.com/stonline/products/literature/ds/1912/m74hc166.pdf
footprint DIP16 (DIP; 16 Leads; Row Spacing 7.62 mm; Pitch 2.54 mm)
3D model DIP16 (DIP; 16 Leads; Row Spacing 7.62 mm; Pitch 2.54 mm)
signal-integrity model M74HC166B1R
pins: 1 SI (in), 2 A (in), 3 B (in), 4 C (in), 5 D (in), 6 CLK INH (in), 7 CLK (in), 8 GND (power), 9 ~{CLR} (in), 10 E (in), 11 F (in), 12 G (in), 13 QH (out), 14 H (in), 15 S/L (in), 16 VCC (power)

## M74HC166C1R
designator U?
8 Bit PISO Shift Register; Note: Pins 1, 6, 11 and 16 are not connected and not drawn.; Published: 8-Jun-2000; LatestRevisionDate: 6-Jun-2005; LatestRevisionNote: Stylized 3D Model Added.; DatasheetDocument: Oct-1992; PackageDocument: Mar-1992; PackageReference: PLCC20; Publisher: Altium Limited; ComponentLink1Description: Manufacturer Link; ComponentLink1URL: http://www.st.com/
footprint PLCC20 (Leaded Chip Carrier; 20 Leads; Body 9 x 9 mm)
3D model M74HC166-PLCC20 (Leaded Chip Carrier; 20 Leads; Body 9 x 9 mm)
signal-integrity model M74HC166C1R
pins: 2 SER (in), 3 A (in), 4 B (in), 5 C (in), 7 D (in), 8 CLK INH (in), 9 CLK (in), 10 GND (power), 12 ~{CLR} (in), 13 E (in), 14 F (in), 15 G (in), 17 QH (out), 18 H (in), 19 SH/~{LD} (in), 20 VCC (power)

## M74HC166M1R
designator U?
8 Bit PISO Shift Register; Published: 8-Jun-2000; LatestRevisionDate: 6-Jun-2005; LatestRevisionNote: Stylized 3D Model Added.; DatasheetDocument: Oct-1992; PackageDocument: May-1998; PackageReference: SO16; Publisher: Altium Limited; ComponentLink1Description: Manufacturer Link; ComponentLink1URL: http://www.st.com/; ComponentLink2Description: Datasheet; ComponentLink2URL: http://www.st.com/stonline/products/literature/ds/1912/m74hc166.pdf
footprint SO16 (Small Outline; 16 Leads; Body Width 3.9 mm; Pitch 1.27 mm)
3D model SO16 (Small Outline; 16 Leads; Body Width 3.9 mm; Pitch 1.27 mm)
signal-integrity model M74HC166M1R
pins: 1 SI (in), 2 A (in), 3 B (in), 4 C (in), 5 D (in), 6 CLK INH (in), 7 CLK (in), 8 GND (power), 9 ~{CLR} (in), 10 E (in), 11 F (in), 12 G (in), 13 QH (out), 14 H (in), 15 S/L (in), 16 VCC (power)

## M74HC194B1R
designator U?
4 Bit PIPO Shift Register; Published: 8-Jun-2000; LatestRevisionDate: 6-Jun-2005; LatestRevisionNote: Stylized 3D Model Added.; DatasheetDocument: Oct-1992; PackageDocument: Apr-1996; PackageReference: DIP16; Publisher: Altium Limited; ComponentLink1Description: Manufacturer Link; ComponentLink1URL: http://www.st.com/
footprint DIP16 (DIP; 16 Leads; Row Spacing 7.62 mm; Pitch 2.54 mm)
3D model DIP16 (DIP; 16 Leads; Row Spacing 7.62 mm; Pitch 2.54 mm)
signal-integrity model M74HC194B1R
pins: 1 ~{CLR} (in), 2 SR (in), 3 A (in), 4 B (in), 5 C (in), 6 D (in), 7 SL (in), 8 GND (power), 9 S0 (in), 10 S1 (in), 11 CLK (in), 12 QD (out), 13 QC (out), 14 QB (out), 15 QA (out), 16 VCC (power)

## M74HC194C1R
designator U?
4 Bit PIPO Shift Register; Note: Pins 1, 6, 11 and 16 are not connected and not drawn.; Published: 8-Jun-2000; LatestRevisionDate: 6-Jun-2005; LatestRevisionNote: Stylized 3D Model Added.; DatasheetDocument: Oct-1992; PackageDocument: Mar-1992; PackageReference: PLCC20; Publisher: Altium Limited; ComponentLink1Description: Manufacturer Link; ComponentLink1URL: http://www.st.com/
footprint PLCC20 (Leaded Chip Carrier; 20 Leads; Body 9 x 9 mm)
3D model M74HC194-PLCC20 (Leaded Chip Carrier; 20 Leads; Body 9 x 9 mm)
signal-integrity model M74HC194C1R
pins: 2 ~{CLR} (in), 3 SR SER (in), 4 A (in), 5 B (in), 7 C (in), 8 D (in), 9 SL SER (in), 10 GND (power), 12 S0 (in), 13 S1 (in), 14 CLK (in), 15 QD (out), 17 QC (out), 18 QB (out), 19 QA (out), 20 VCC (power)

## M74HC194M1R
designator U?
4 Bit PIPO Shift Register; Published: 8-Jun-2000; LatestRevisionDate: 6-Jun-2005; LatestRevisionNote: Stylized 3D Model Added.; DatasheetDocument: Oct-1992; PackageDocument: May-1998; PackageReference: SO16; Publisher: Altium Limited; ComponentLink1Description: Manufacturer Link; ComponentLink1URL: http://www.st.com/
footprint SO16 (Small Outline; 16 Leads; Body Width 3.9 mm; Pitch 1.27 mm)
3D model SO16 (Small Outline; 16 Leads; Body Width 3.9 mm; Pitch 1.27 mm)
signal-integrity model M74HC194M1R
pins: 1 ~{CLR} (in), 2 SR (in), 3 A (in), 4 B (in), 5 C (in), 6 D (in), 7 SL (in), 8 GND (power), 9 S0 (in), 10 S1 (in), 11 CLK (in), 12 QD (out), 13 QC (out), 14 QB (out), 15 QA (out), 16 VCC (power)

## M74HC195B1R
designator U?
8 Bit PIPO Shift Register; Published: 8-Jun-2000; LatestRevisionDate: 6-Jun-2005; LatestRevisionNote: Stylized 3D Model Added.; DatasheetDocument: Oct-1992; PackageDocument: Apr-1996; PackageReference: DIP16; Publisher: Altium Limited; ComponentLink1Description: Manufacturer Link; ComponentLink1URL: http://www.st.com/
footprint DIP16 (DIP; 16 Leads; Row Spacing 7.62 mm; Pitch 2.54 mm)
3D model DIP16 (DIP; 16 Leads; Row Spacing 7.62 mm; Pitch 2.54 mm)
signal-integrity model M74HC195B1R
pins: 1 ~{CLR} (in), 2 J (in), 3 ~{K} (in), 4 A (in), 5 B (in), 6 C (in), 7 D (in), 8 GND (power), 9 S/L (in), 10 CLK (in), 11 ~{Q}D (out), 12 QD (out), 13 QC (out), 14 QB (out), 15 QA (out), 16 VCC (power)

## M74HC195C1R
designator U?
8 Bit PIPO Shift Register; Note: Pins 1, 6, 11 and 16 are not connected and not drawn.; Published: 8-Jun-2000; LatestRevisionDate: 6-Jun-2005; LatestRevisionNote: Stylized 3D Model Added.; DatasheetDocument: Oct-1992; PackageDocument: Mar-1992; PackageReference: PLCC20; Publisher: Altium Limited; ComponentLink1Description: Manufacturer Link; ComponentLink1URL: http://www.st.com/
footprint PLCC20 (Leaded Chip Carrier; 20 Leads; Body 9 x 9 mm)
3D model M74HC195-PLCC20 (Leaded Chip Carrier; 20 Leads; Body 9 x 9 mm)
signal-integrity model M74HC195C1R
pins: 2 ~{CLR} (in), 3 J (in), 4 ~{K} (in), 5 A (in), 7 B (in), 8 C (in), 9 D (in), 10 GND (power), 12 S/L (in), 13 CLK (in), 14 ~{Q}D (out), 15 QD (out), 17 QC (out), 18 QB (out), 19 QA (out), 20 VCC (power)

## M74HC195M1R
designator U?
8 Bit PIPO Shift Register; Published: 8-Jun-2000; LatestRevisionDate: 6-Jun-2005; LatestRevisionNote: Stylized 3D Model Added.; DatasheetDocument: Oct-1992; PackageDocument: May-1998; PackageReference: SO16; Publisher: Altium Limited; ComponentLink1Description: Manufacturer Link; ComponentLink1URL: http://www.st.com/
footprint SO16 (Small Outline; 16 Leads; Body Width 3.9 mm; Pitch 1.27 mm)
3D model SO16 (Small Outline; 16 Leads; Body Width 3.9 mm; Pitch 1.27 mm)
signal-integrity model M74HC195M1R
pins: 1 ~{CLR} (in), 2 J (in), 3 ~{K} (in), 4 A (in), 5 B (in), 6 C (in), 7 D (in), 8 GND (power), 9 S/L (in), 10 CLK (in), 11 ~{Q}D (out), 12 QD (out), 13 QC (out), 14 QB (out), 15 QA (out), 16 VCC (power)